# Altium footprint library footprintLIB.PcbLib: 49 footprints (part 4 of 4)
Each footprint in its own frame and in the unit in brackets; x right, y up, seen from the top. Pads: shape width x height; smd on the part's side, far side on the other; paste and mask are expansions set on the pad; w line width, h text height; cw(c..) or ccw(c..) is an arc to the next point about the centre after c.
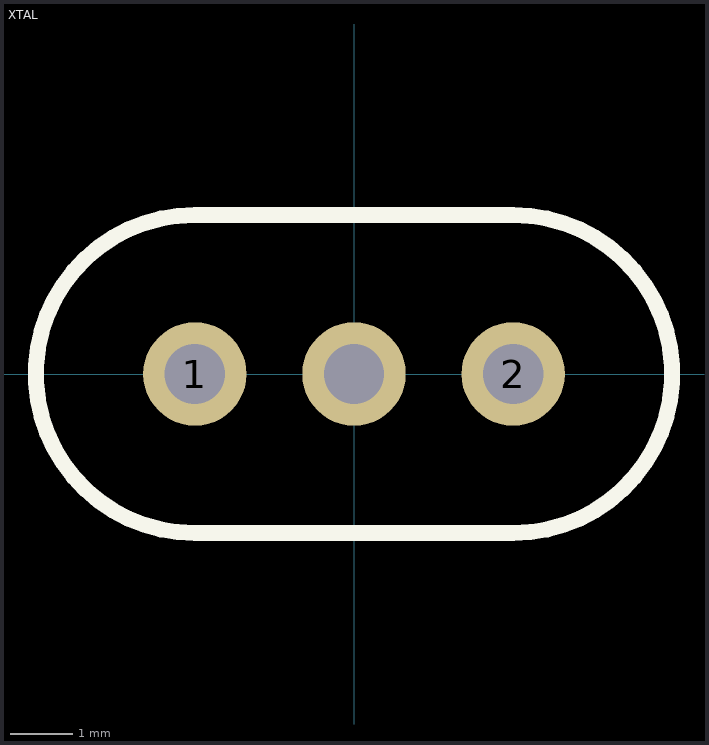
[diagram p3: the footprint, top view; thin cyan lines are the x and y axes]

## XTAL [mil]
pads (3):
  round 65 hole 38: 1(-100,0) 2(100,0) ""(0,0)
Top Overlay:
  lines w10: -100,-100 cw(c-100,0) -100,100 100,100 cw(c100,0) 100,-100 -100,-100